# EAGLE library part 47* (library memory-eeram-microchip)
The Microchip Technology Inc. 47L04/47C04/47L16/47C16 (47XXX) is a 4/16 Kbit SRAM with EEPROM backup. The device is organized as 512 x 8 bits or 2,048 x 8 bits of memory and utilizes the I2C serial interface. The 47XXX provides infinite read and write cycles to the SRAM while EEPROM cells provide high-endurance nonvolatile storage of data. With an external capacitor, SRAM data is automatically transferred to the EEPROM upon loss of power. Data can also be transferred manually by using either the Hardware Store pin or software control. Upon power-up, the EEPROM data is automatically recalled to the SRAM. Recall can also be initiated through software control.
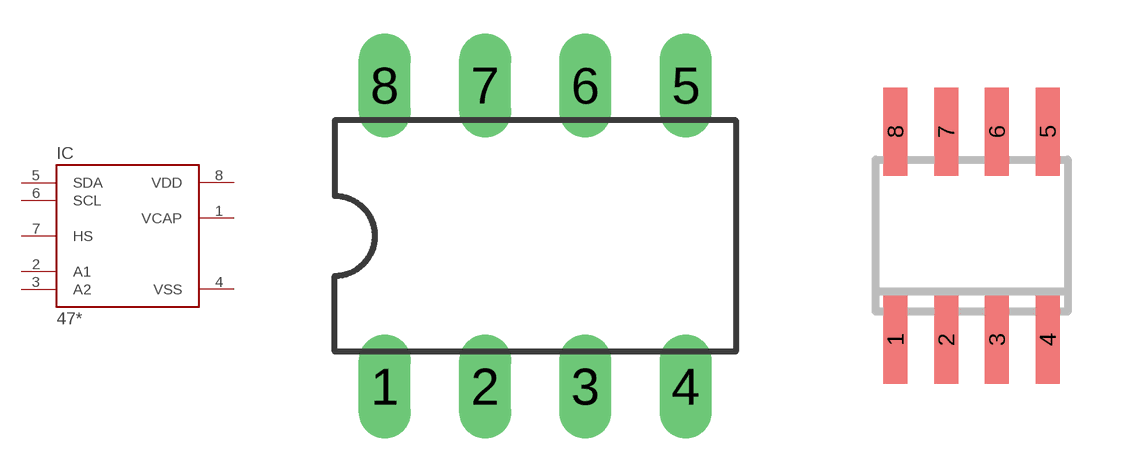
[diagram p0: symbol with the pads of DIL08; footprints DIL08, SO8]

Designator prefix IC

## 47P  [DIL08]
1  VCAP
2  A1
3  A2
4  VSS
5  SDA
6  SCL
7  HS
8  VDD

## 47SN  [SO8]
Pads as for DIL08

## 47ST  [TSSOP8]
Pads as for DIL08

## Footprint DIL08 (pad centres in mm)
Dual In Line Package
drill 0.813 long: 1 -3.81,-3.81; 2 -1.27,-3.81; 3 1.27,-3.81; 4 3.81,-3.81; 5 3.81,3.81; 6 1.27,3.81; 7 -1.27,3.81; 8 -3.81,3.81

## Footprint SO8 (pad centres in mm)
SMALL OUTLINE INTEGRATED CIRCUIT
smd 0.6 x 2.2: 1 -1.905,-2.6; 2 -0.635,-2.6; 3 0.635,-2.6; 4 1.905,-2.6; 5 1.905,2.6; 6 0.635,2.6; 7 -0.635,2.6; 8 -1.905,2.6

## Footprint TSSOP8 (pad centres in mm)
Plastic Small Outline
smd 1.2 x 0.35: 1 -2.925,0.975; 2 -2.925,0.325; 3 -2.925,-0.325; 4 -2.925,-0.975; 5 2.925,-0.975; 6 2.925,-0.325; 7 2.925,0.325; 8 2.925,0.975